# EAGLE library part V2XE (library paparazzi3)
2 axis compas
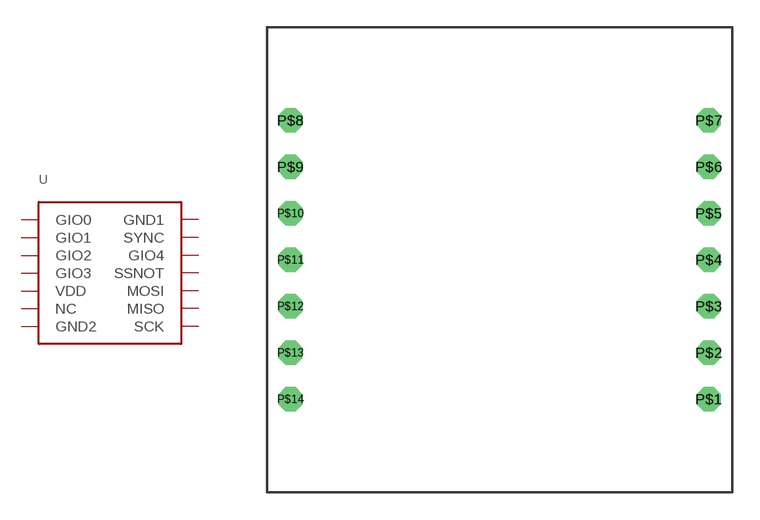
[diagram p6: symbol with the pads of V2XE; footprint V2XE]

Designator prefix -

## V2XE  [V2XE]
P$1  SCK
P$2  MISO
P$3  MOSI
P$4  SSNOT
P$5  GIO4
P$6  SYNC
P$7  GND1
P$8  GIO0
P$9  GIO1
P$10  GIO2
P$11  GIO3
P$12  VDD
P$13  NC
P$14  GND2

## Footprint V2XE (pad centres in mm)
drill 0.813 octagon: P$1 11.43,-7.62; P$2 11.43,-5.08; P$3 11.43,-2.54; P$4 11.43,0; P$5 11.43,2.54; P$6 11.43,5.08; P$7 11.43,7.62; P$8 -11.43,7.62; P$9 -11.43,5.08; P$10 -11.43,2.54; P$11 -11.43,0; P$12 -11.43,-2.54; P$13 -11.43,-5.08; P$14 -11.43,-7.62